# Altium footprint library Transistor.PcbLib: 6 footprints
Each footprint in its own frame and in the unit in brackets; x right, y up, seen from the top. Pads: shape width x height; smd on the part's side, far side on the other; paste and mask are expansions set on the pad; w line width, h text height; cw(c..) or ccw(c..) is an arc to the next point about the centre after c.
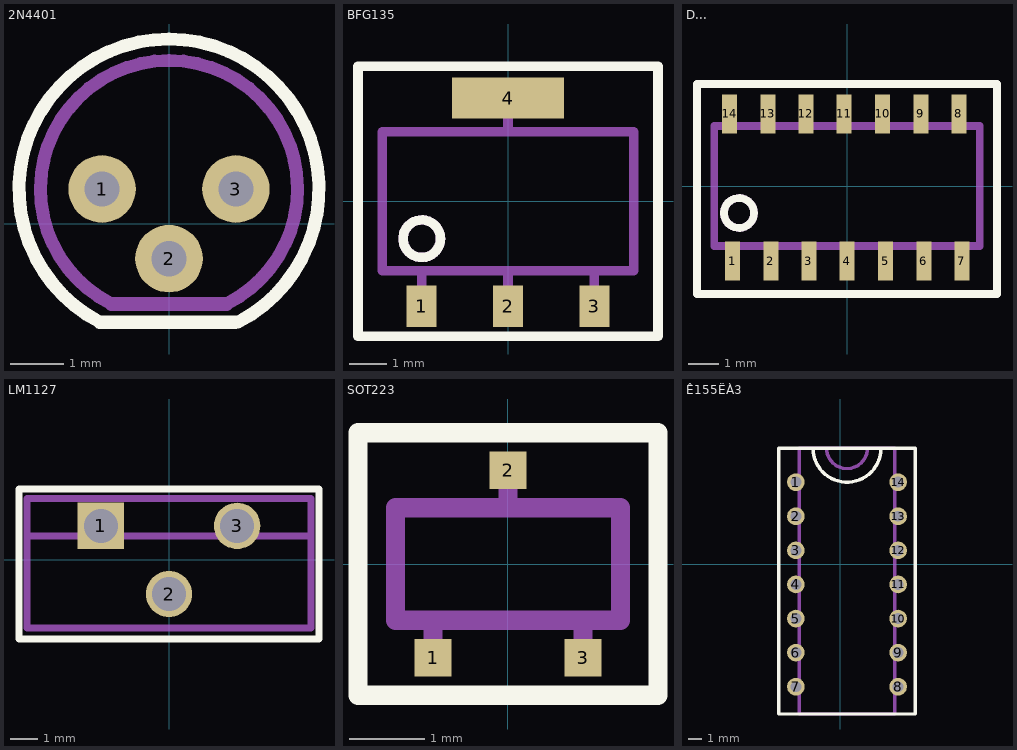
[diagram p0: the footprints below, top view; thin cyan lines are the x and y axes]

## 2N4401 [mm]
pads (3):
  round 1.26 hole 0.66 unplated: 1(-1.25,0.65) 2(0,-0.65) 3(1.25,0.65)
Top Overlay:
  lines w0.242: -1.292,-1.834 cw(c0,0.65) 1.292,-1.834
  lines w0.254: -1.292,-1.834 1.232,-1.834
Mechanical 1:
  lines w0.242: -1.073,-1.497 cw(c0,0.65) 1.073,-1.497
  lines w0.254: -1.073,-1.497 1.073,-1.497

## BFG135 [mm]
pads (4):
  rect 0.8x1.1 all layers, no hole: 1(-2.3,-2.8) 2(0,-2.8) 3(2.3,-2.8)
  rect 3x1.1 all layers, no hole: 4(0,2.75)
Top Overlay:
  circle w0.254: c-2.3,-1 r0.5
  lines w0.254: -4,-3.6 4,-3.6 4,3.6 -4,3.6 -4,-3.6
Mechanical 1:
  circle w0.254: c-2.3,-1 r0.5
  lines w0.254: -2.3,-2.8 -2.3,-1.9 ; 0,-2.8 0,-1.85 ; 0,1.85 0,2.75 ; 2.3,-2.8 2.3,-1.85 ; -3.35,-1.85 3.35,-1.85 3.35,1.85 -3.35,1.85 -3.35,-1.85

## D... [mm]
pads (14):
  rect 0.5x1.3 smd: 1(-3.81,-2.5) 2(-2.54,-2.5) 3(-1.27,-2.5) 4(0,-2.5) 5(1.29,-2.5) 6(2.56,-2.5) 7(3.83,-2.5) 8(3.73,2.4) 9(2.46,2.4) 10(1.19,2.4) 11(-0.1,2.4) 12(-1.37,2.4) 13(-2.64,2.4) 14(-3.91,2.4)
Top Overlay:
  circle w0.254: c-3.6,-0.9 r0.5
  lines w0.254: -5,-3.6 -5,3.4 5,3.4 5,-3.6 -5,-3.6
Mechanical 1:
  circle w0.254: c-3.6,-0.9 r0.5
  lines w0.254: -4.425,-2 4.425,-2 4.425,2 -4.425,2 -4.425,-2

## LM1127 [mm]
pads (3):
  rect 1.7x1.7 hole 1.25 unplated: 1(-2.5,1.25)
  round 1.7 hole 1.25 unplated: 2(0,-1.25) 3(2.5,1.25)
Top Overlay:
  lines w0.254: -5.5,-2.9 -5.5,2.6 5.5,2.6 5.5,-2.9 -5.5,-2.9
Mechanical 1:
  lines w0.254: -5.2,0.88 5.2,0.88 ; -5.2,-2.5 -5.2,2.25 5.2,2.25 5.2,-2.5 -5.2,-2.5

## SOT223 [mm]
pads (3):
  rect 0.5x0.5 smd: 1(-1,-1.25) 2(0,1.25) 3(1,-1.25)
Top Overlay:
  lines w0.254: -2,-1.75 -2,1.75 2,1.75 2,-1.75 -2,-1.75
Mechanical 1:
  lines w0.254: -1,-1.25 -1,-0.75 ; 0,0.75 0,1.25 ; 1,-1.25 1,-0.75 ; -1.5,-0.75 -1.5,0.75 1.5,0.75 1.5,-0.75 -1.5,-0.75

## Ê155ËÀ3 [mm]
pads (14):
  round 1.3 hole 0.8: 1(-3.25,6) 2(-3.25,3.5) 3(-3.25,1) 4(-3.25,-1.5) 5(-3.25,-4) 6(-3.25,-6.5) 7(-3.25,-9) 8(4.25,-9) 9(4.25,-6.5) 10(4.25,-4) 11(4.25,-1.5) 12(4.25,1) 13(4.25,3.5) 14(4.25,6)
Top Overlay:
  lines w0.254: -2,8.5 ccw(c0.5,8.5) 3,8.5 ; -4.5,-11 -4.5,8.5 5.5,8.5 5.5,-11 -4.5,-11
Mechanical 1:
  lines w0.254: -1,8.5 ccw(c0.5,8.5) 2,8.5 ; -3,-11 -3,8.5 4,8.5 4,-11 -3,-11